# EAGLE library part NRF52833_QDAA (library nrf52833_qdaa)
Multi-protocol Bluetooth Low Energy, IEEE 802.15.4, ANT and 2.4GHz proprietary system-on-chip
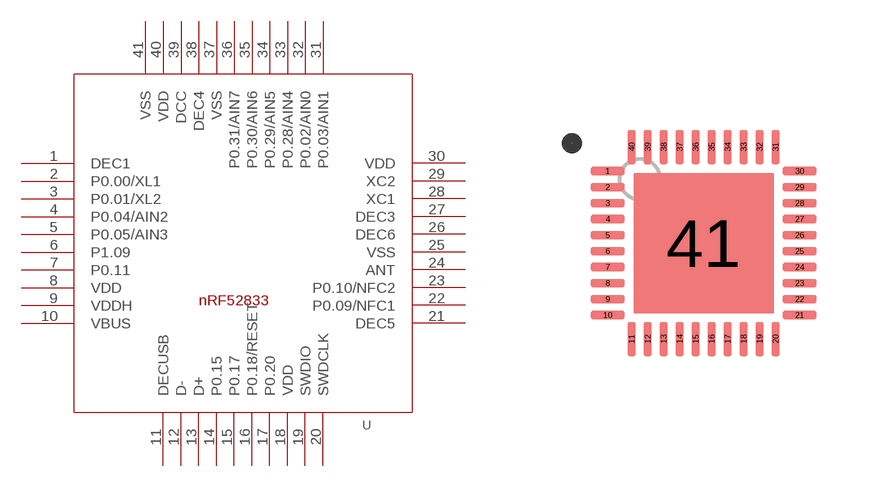
[diagram p0: symbol with the pads of QFN40P500X500X50_HS-41N; footprint QFN40P500X500X50_HS-41N]

Designator prefix U

## NRF52833_QDAANRF52833_QDAA_QFN40P500X500X50_HS-41N (FOOTPRINT_DOC: QFN-40; LATESTREVISIONDATE: 2018-12-03; MANUFACTURER: Nordic Semiconductor; MANUFACTURER_PART_NUMBER: nRF52833-QDAA; PART_NUMBER: nRF52833-QDAA; PIN_COUNT: 40; PUBLISHED: 2018-12-03; PUBLISHER: Nordic Semiconductor; VALUE: nRF52833-QDAA)  [QFN40P500X500X50_HS-41N]
1  DEC1  pwr
2  P0.00/XL1
3  P0.01/XL2
4  P0.04/AIN2
5  P0.05/AIN3
6  P1.09
7  P0.11
8  VDD  pwr
9  VDDH  pwr
10  VBUS  pwr
11  DECUSB  pwr
12  D-
13  D+
14  P0.15
15  P0.17
16  P0.18/RESET
17  P0.20
18  VDD  pwr
19  SWDIO
20  SWDCLK  in
21  DEC5  pwr
22  P0.09/NFC1
23  P0.10/NFC2
24  ANT
25  VSS  pwr
26  DEC6  pwr
27  DEC3  pwr
28  XC1  in
29  XC2  out
30  VDD  pwr
31  P0.03/AIN1
32  P0.02/AIN0
33  P0.28/AIN4
34  P0.29/AIN5
35  P0.30/AIN6
36  P0.31/AIN7
37  VSS  pwr
38  DEC4  pwr
39  DCC  out
40  VDD  pwr
41  VSS  pwr

## Footprint QFN40P500X500X50_HS-41N (pad centres in mm)
smd 0.85 x 0.2: 1 -2.4,1.8; 2 -2.4,1.4; 3 -2.4,1; 4 -2.4,0.6; 5 -2.4,0.2; 6 -2.4,-0.2; 7 -2.4,-0.6; 8 -2.4,-1; 9 -2.4,-1.4; 10 -2.4,-1.8; 21 2.4,-1.8; 22 2.4,-1.4; 23 2.4,-1; 24 2.4,-0.6; 25 2.4,-0.2; 26 2.4,0.2; 27 2.4,0.6; 28 2.4,1; 29 2.4,1.4; 30 2.4,1.8
smd 0.2 x 0.85: 11 -1.8,-2.4; 12 -1.4,-2.4; 13 -1,-2.4; 14 -0.6,-2.4; 15 -0.2,-2.4; 16 0.2,-2.4; 17 0.6,-2.4; 18 1,-2.4; 19 1.4,-2.4; 20 1.8,-2.4; 31 1.8,2.4; 32 1.4,2.4; 33 1,2.4; 34 0.6,2.4; 35 0.2,2.4; 36 -0.2,2.4; 37 -0.6,2.4; 38 -1,2.4; 39 -1.4,2.4; 40 -1.8,2.4
smd 3.5 x 3.5: 41 0,0